# EAGLE library part TMUX1119DBVR (library TMUX1119DBVR)
Analog Switch ICs 3-pA, 5-V, 2:1 (SPDT), 1-channel precision multiplexer Source: Datasheet <https://www.ti.com/lit/gpn/TMUX1119>
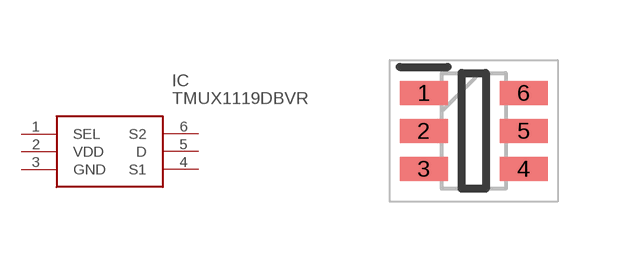
[diagram p0: symbol with the pads of SOT95P280X145-6N; footprint SOT95P280X145-6N]

Designator prefix IC

## TMUX1119DBVR (Description: Analog Switch ICs 3-pA, 5-V, 2:1 (SPDT), 1-channel precision multiplexer; Height: 1.45mm; Manufacturer_Name: Texas Instruments; Manufacturer_Part_Number: TMUX1119DBVR; Mouser_Part_Number: 595-TMUX1119DBVR; Mouser_Price-Stock: https://www.mouser.co.uk/ProductDetail/Texas-Instruments/TMUX1119DBVR?qs=9r4v7xj2Lnn%2FqYCDWCSZ7w%3D%3D)  [SOT95P280X145-6N]
1  SEL
2  VDD
3  GND
4  S1
5  D
6  S2

## Footprint SOT95P280X145-6N (pad centres in mm)
DBV0006A SOT-23 - 1.45 mm max height
smd 1.2 x 0.6: 1 -1.25,0.95; 2 -1.25,0; 3 -1.25,-0.95; 4 1.25,-0.95; 5 1.25,0; 6 1.25,0.95